# Altium footprint library Tes_Bench_Lib_PCB.PcbLib: 20 footprints (part 2 of 2)
Each footprint in its own frame and in the unit in brackets; x right, y up, seen from the top. Pads: shape width x height; smd on the part's side, far side on the other; paste and mask are expansions set on the pad; w line width, h text height; cw(c..) or ccw(c..) is an arc to the next point about the centre after c.
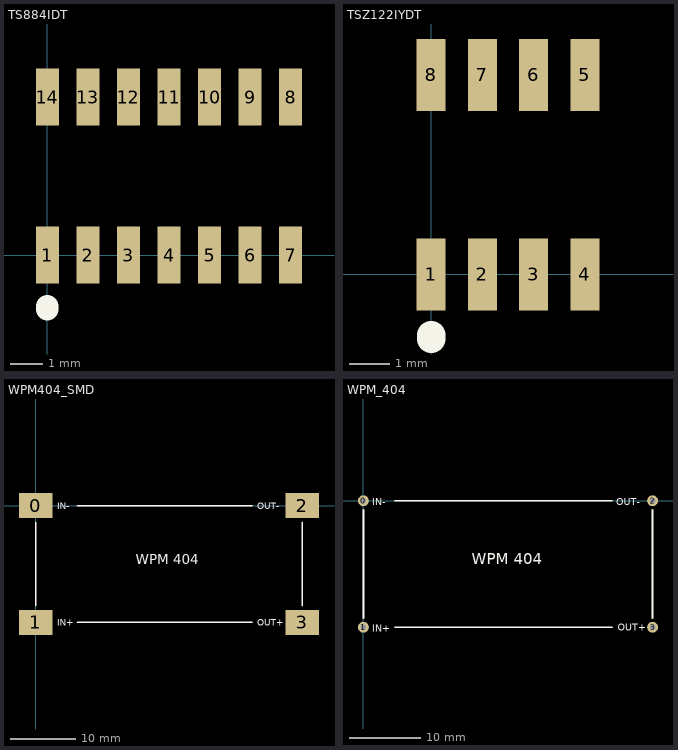
[diagram p1: the footprints below, top view; thin cyan lines are the x and y axes]

## TS884IDT [mm] "Analog Comparators Rail2Rail 1.1 Vquad nanopwr comparators"
pads (14):
  rect 0.72x1.78 smd: 1(0,0) 2(1.27,0) 3(2.54,0) 4(3.81,0) 5(5.08,0) 6(6.35,0) 7(7.62,0) 8(7.62,4.95) 9(6.35,4.95) 10(5.08,4.95) 11(3.81,4.95) 12(2.54,4.95) 13(1.27,4.95) 14(0,4.95)
Top Overlay:
  lines w0.7: 0,-1.7 0,-1.6

## TSZ122IYDT [mm] "Precision Amplifiers Very high accuracy (5 uV) zero drift 5 V CMOS Op-Amps, dual, GBP=400kHz"
pads (8):
  rect 0.72x1.78 smd: 1(0,0) 2(1.27,0) 3(2.54,0) 4(3.81,0) 5(3.81,4.95) 6(2.54,4.95) 7(1.27,4.95) 8(0,4.95)
Top Overlay:
  lines w0.7: 0,-1.6 0,-1.5

## WPM404_SMD [mil]
pads (4):
  rect 200x150 smd: 0(0,0) 1(0,-700) 2(1600,0) 3(1600,-700)
Top Overlay:
  lines w10: 0,-600 0,-100 ; 250,-700 1300,-700 ; 250,0 1300,0 ; 1600,-600 1600,-100
  text "WPM 404" at 600,-350 h60
  text "OUT+" at 1330,-720 h39.37
  text "OUT-" at 1330,-20 h39.37
  text "IN-" at 130,-20 h39.37
  text "IN+" at 130,-720 h39.37

## WPM_404 [mil] "Velleman WPM404 Whadda DC-DC Adjustable Voltage Step-Down Module LM2596S"
pads (4):
  round 60 hole 30: 0(0,0) 1(0,-700) 2(1600,0) 3(1600,-700)
Top Overlay:
  lines w10: 0,-650 0,-50 ; 175,-700 1375,-700 ; 175,0 1375,0 ; 1600,-650 1600,-50
  text "WPM 404" at 600,-350 h60
  text "OUT+" at 1405.91,-719.09 h39.37
  text "OUT-" at 1400,-25 h39.37
  text "IN-" at 50,-25 h39.37
  text "IN+" at 50,-725 h39.37